# EAGLE library part LTC3725 (library PowerProducts)
Single-Switch Forward Controller and Gate Driver
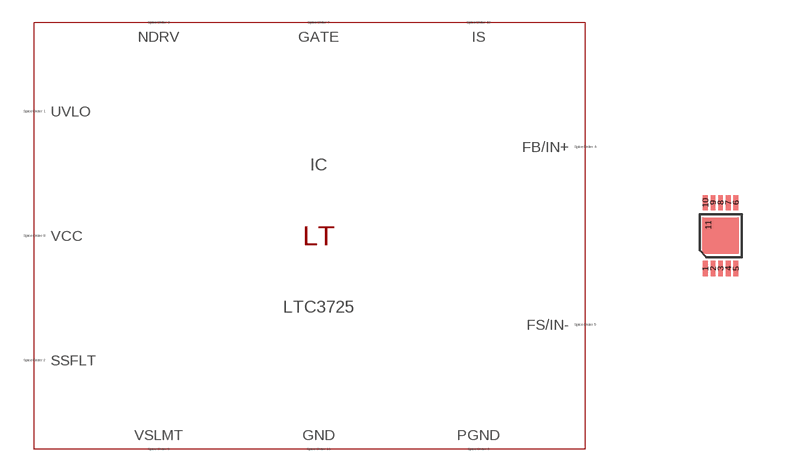
[diagram p300: symbol with the pads of MSOP10(MSE); footprint MSOP10(MSE)]

Designator prefix IC

## LTC3725 (SPICEMODEL: LTC3725.sub; SPICEPREFIX: X; VALUE2: LTC3725)  [MSOP10(MSE)]
1  UVLO  pas
2  SSFLT  pas
3  NDRV  pas
4  FB/IN+  pas
5  FS/IN-  pas
6  PGND  pas
7  GATE  pas
8  VCC  pas
9  VSLMT  pas
10  IS  pas
11  GND  pas

## Footprint MSOP10(MSE) (pad centres in mm)
Package generated from: MSOP10(MSE).asc (!PADS-POWERPCB-V9.3-BASIC! DESIGN DATABASE ASCII FILE 1.0) with :import-pads-powerpcb-v5.ulp Version 1.0.1 at 04.10.2012 14:11:19
smd 0.116 x 0.387: 1 -0.381,-0.823; 2 -0.191,-0.823; 3 0,-0.823; 4 0.191,-0.823; 5 0.381,-0.823; 6 0.381,0.823; 7 0.191,0.823; 8 0,0.823; 9 -0.191,0.823; 10 -0.381,0.823
smd 0 x 0.097: 11 -0.31,0.271